# EAGLE library part DG467 (library butter)
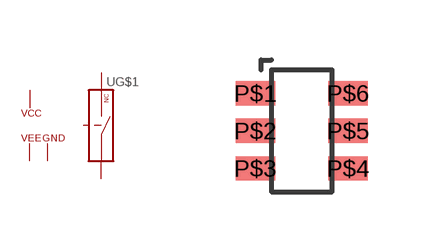
[diagram p3: symbol with the pads of TSSOP-6; footprint TSSOP-6]

Designator prefix -; gates G$1=SW G$2=PWR

## DG467  [TSSOP-6]
P$1  G$1:IN
P$2  G$2:VEE
P$3  G$1:CTL
P$4  G$2:GND
P$5  G$2:VCC
P$6  G$1:COM

## DG467DG9422  [TSSOP-6]
P$1  G$2:VCC
P$2  G$1:COM
P$3  G$2:VEE
P$4  G$2:GND
P$5  G$1:IN
P$6  G$1:CTL

## Footprint TSSOP-6 (pad centres in mm)
smd 0.991 x 0.61: P$1 -1.161,0.94; P$2 -1.161,0; P$3 -1.161,-0.94; P$4 1.161,-0.94; P$5 1.161,0; P$6 1.161,0.94